# Altium integrated library Linear Technology Power Management PMIC Multifunction.IntLib: 360 symbols (part 37 of 42)
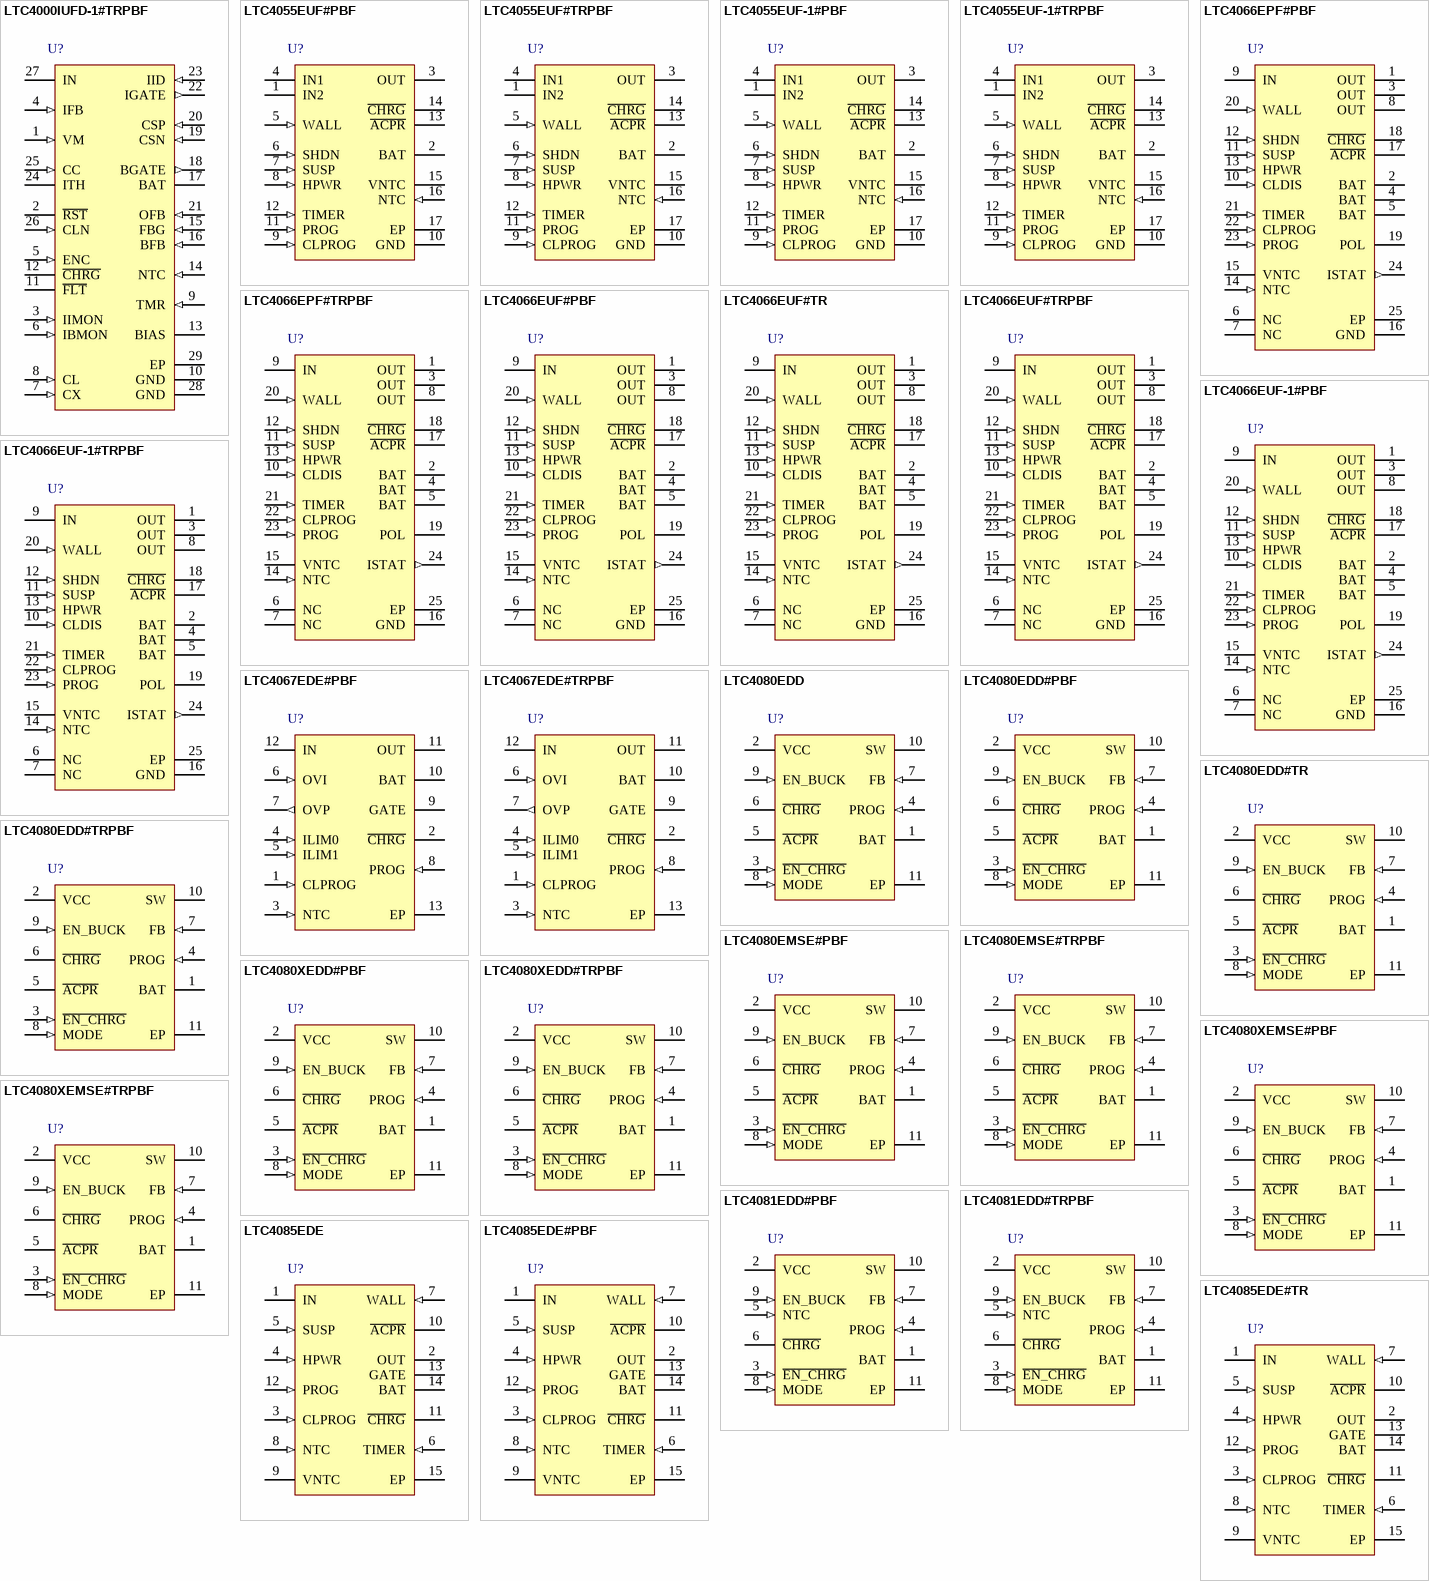
[diagram p54: symbols LTC4000IUFD-1#TRPBF to LTC4085EDE#TR]

## LTC4080XEMSE#PBF
designator U?
500 mA Standalone Li-Ion Charger with Integrated 300 mA Synchronous Buck, 3.75 to 5.5 V Vin, 10-pin SOP (MSE-10-EDP), 0 to 70 degC, Pb-Free; Manufacturer: Linear Technology; PartNumber: LTC4080XEMSE#PBF; Number of Cells: 1; Vin Max(V): 5.5; Vin Min(V): 3.75; PackageVersion: Rev. C, 08/2009; PackageReference: MSE-10; PackageDescription: 10-Pin Plastic MSOP, Exposed Die Pad, Body 3 x 3 mm, Pitch 0.5 mm; Supplier 1: Digi-Key; Supplier Part Number 1: LTC4080XEMSE#PBF-ND; Number of Outputs: 1; RoHS: TRUE; Mounting Technology: Surface Mount; ComponentLink1Description: Manufacturer URL; ComponentLink1URL: http://www.linear.com/; ComponentLink2Description: Datasheet; ComponentLink2URL: http://cds.linear.com/docs/en/datasheet/4080Xf.pdf; ComponentLink3Description: Package Specification; ComponentLink3URL: http://cds.linear.com/docs/en/datasheet/3481fc.pdf
footprint LT-MSE-10-EDP-2060x1830TP_N (SOP, 10-Leads, Body 3.1x3.1mm, Pitch 0.5mm, Thermal Pad 2.17x1.94mm, IPC Medium Density)
footprint LT-MSE-10-EDP-2060x1830TP_L (SOP, 10-Leads, Body 3.1x3.1mm, Pitch 0.5mm, Thermal Pad 2.17x1.94mm, IPC High Density)
footprint LT-MSE-10-EDP-2060x1830TP_M (SOP, 10-Leads, Body 3.1x3.1mm, Pitch 0.5mm, Thermal Pad 2.17x1.94mm, IPC Low Density)
pins: 1 BAT (power) "Charge Current Output and Buck Regulator Input. Provides charge current to the battery and regulates the final float voltage to 4.2V. An internal precision resistor divider from this pin sets the float voltage and is (See Datasheet)", 2 VCC (power) "Positive Input Supply Voltage. This pin provides power to the battery charger. VCC can range from 3.75V to 5.5V. This pin should be bypassed with at least a 1uF capacitor. When VCC is less than 32mV above the BAT pin (See Datasheet)", 3 ~{EN_CHRG} (in), 4 PROG (in) "Charge Current Program and Charge Current Monitor Pin. Connecting a 1% resistor, RPROG, to ground programs the charge current. When charging in constant-current mode, this pin servos to 1V.", 5 ~{ACPR} (hiz), 6 ~{CHRG} (hiz) "Open-Drain Charge Status Output. The charge status indicator pin has three states: pulldown, high impedance state, and pulse at 2Hz. This output can be used as a logic interface or as an LED driver. When the battery is being (See Datasheet)", 7 FB (in) "Feedback Pin for the Buck Regulator. A resistor divider from the regulator’s output to the FB pin programs the output voltage. Servo value for this pin is 0.8V.", 8 MODE (in), 9 EN_BUCK (in) "Enable Input Pin for the Switching Regulator. Pull this pin high to enable the regulator, pull low to shut down. Do not float this pin.", 10 SW (power) "Switch Pin for the Buck Regulator. Minimize the length of the metal trace connected to this pin. Place the inductor as close to this pin as possible.", 11 EP (power) "Ground. This pin is the back of the Exposed Pad package and must be soldered to the PCB for electrical connection and rated thermal performance."

## LTC4080XEMSE#TRPBF
designator U?
500 mA Standalone Li-Ion Charger with Integrated 300 mA Synchronous Buck, 3.75 to 5.5 V Vin, 10-pin SOP (MSE-10-EDP), 0 to 70 degC, Pb-Free, Tape and Reel; Manufacturer: Linear Technology; PartNumber: LTC4080XEMSE#TRPBF; Number of Cells: 1; Vin Max(V): 5.5; Vin Min(V): 3.75; PackageVersion: Rev. C, 08/2009; PackageReference: MSE-10; PackageDescription: 10-Pin Plastic MSOP, Exposed Die Pad, Body 3 x 3 mm, Pitch 0.5 mm; Supplier 1: Digi-Key; Supplier Part Number 1: LTC4080XEMSE#TRPBF-ND; Number of Outputs: 1; Packing: Tape and Reel; RoHS: TRUE; Mounting Technology: Surface Mount; ComponentLink1Description: Manufacturer URL; ComponentLink1URL: http://www.linear.com/; ComponentLink2Description: Datasheet; ComponentLink2URL: http://cds.linear.com/docs/en/datasheet/4080Xf.pdf; ComponentLink3Description: Package Specification; ComponentLink3URL: http://cds.linear.com/docs/en/datasheet/3481fc.pdf
footprint LT-MSE-10-EDP-2060x1830TP_N (SOP, 10-Leads, Body 3.1x3.1mm, Pitch 0.5mm, Thermal Pad 2.17x1.94mm, IPC Medium Density)
footprint LT-MSE-10-EDP-2060x1830TP_L (SOP, 10-Leads, Body 3.1x3.1mm, Pitch 0.5mm, Thermal Pad 2.17x1.94mm, IPC High Density)
footprint LT-MSE-10-EDP-2060x1830TP_M (SOP, 10-Leads, Body 3.1x3.1mm, Pitch 0.5mm, Thermal Pad 2.17x1.94mm, IPC Low Density)
pins: 1 BAT (power) "Charge Current Output and Buck Regulator Input. Provides charge current to the battery and regulates the final float voltage to 4.2V. An internal precision resistor divider from this pin sets the float voltage and is (See Datasheet)", 2 VCC (power) "Positive Input Supply Voltage. This pin provides power to the battery charger. VCC can range from 3.75V to 5.5V. This pin should be bypassed with at least a 1uF capacitor. When VCC is less than 32mV above the BAT pin (See Datasheet)", 3 ~{EN_CHRG} (in), 4 PROG (in) "Charge Current Program and Charge Current Monitor Pin. Connecting a 1% resistor, RPROG, to ground programs the charge current. When charging in constant-current mode, this pin servos to 1V.", 5 ~{ACPR} (hiz), 6 ~{CHRG} (hiz) "Open-Drain Charge Status Output. The charge status indicator pin has three states: pulldown, high impedance state, and pulse at 2Hz. This output can be used as a logic interface or as an LED driver. When the battery is being (See Datasheet)", 7 FB (in) "Feedback Pin for the Buck Regulator. A resistor divider from the regulator’s output to the FB pin programs the output voltage. Servo value for this pin is 0.8V.", 8 MODE (in), 9 EN_BUCK (in) "Enable Input Pin for the Switching Regulator. Pull this pin high to enable the regulator, pull low to shut down. Do not float this pin.", 10 SW (power) "Switch Pin for the Buck Regulator. Minimize the length of the metal trace connected to this pin. Place the inductor as close to this pin as possible.", 11 EP (power) "Ground. This pin is the back of the Exposed Pad package and must be soldered to the PCB for electrical connection and rated thermal performance."

## LTC4081EDD#PBF
designator U?
500 mA Li-Ion Charger with NTC Input and 300 mA Synchronous Buck, 3.75 to 5.5 V Vin, 10-pin SON (DD-10), 0 to 70 degC, Pb-Free; Manufacturer: Linear Technology; PartNumber: LTC4081EDD#PBF; Number of Cells: 1; Vin Max(V): 5.5; Vin Min(V): 3.75; PackageVersion: Rev. C, 06/2010; PackageReference: DD-10; PackageDescription: 10-Pin Plastic DFN, Body 3 x 3 mm, Pitch 0.5 mm; Supplier 1: Digi-Key; Supplier Part Number 1: LTC4081EDD#PBF-ND; Supplier 2: Farnell; Supplier Part Number 2: 1715248; Supplier 3: Newark; Supplier Part Number 3: 58M0941; Number of Outputs: 1; RoHS: TRUE; Mounting Technology: Surface Mount; Code_JEDEC: MO-229; ComponentLink1Description: Manufacturer URL; ComponentLink1URL: http://www.linear.com/; ComponentLink2Description: Datasheet; ComponentLink2URL: http://cds.linear.com/docs/en/datasheet/4081f.pdf; ComponentLink3Description: Package Specification; ComponentLink3URL: http://cds.linear.com/docs/en/packaging/DFN_10_05-08-1699.pdf
footprint LT-DD-10_V (SON, 10-Leads, Body 3x3mm, Pitch 0.5mm, Thermal Pad 2.38x1.65mm)
pins: 1 BAT (power) "Charge Current Output and Buck Regulator Input. Provides charge current to the battery and regulates the ?nal ?oat voltage to 4.2V. An internal precision resistor divider from this pin sets the ?oat voltage a(See Datasheet)", 2 VCC (power) "Positive Input Supply Voltage. This pin provides power to the battery charger. VCC can range from 3.75V to 5.5V. This pin should be bypassed with at least a 1uF capacitor. When VCC is less than 32mV above the BAT pin (See Datasheet)", 3 ~{EN_CHRG} (in) "Enable Input Pin for the Battery Charger. Pulling this pin above the manual shutdown threshold (VIH) puts the LTC4081 charger in shutdown mode, thus stopping the charge cycle. In battery charger shutdown mode, the LTC4081 (See Datasheet)", 4 PROG (in) "Charge Current Program and Charge Current Monitor Pin. Connecting a 1% resistor, RPROG, to ground programs the charge current. When charging in constant-current mode, this pin servos to 1V. In all modes,  the voltage on this (See Datasheet)", 5 NTC (in) "Input to the NTC (negative temperature coef- ?cient) Thermistor Temperature Monitoring Circuit. For normal operation, connect a thermistor from the NTC pin to ground and a resistor of equal value from the NTC pin to VCC(See Datasheet)", 6 ~{CHRG} (hiz) "Open-Drain Charge Status Output. The charge status indicator pin has three states: pulldown, high impedance state, and pulsing at 2Hz. This output can be used as a logic interface or as an LED driver. When the  battery is (See Datasheet)", 7 FB (in) "Feedback Pin for the Buck Regulator. A resistor divider from the regulator¡¯s output to the FB pin programs  the output voltage. Servo value for this pin is 0.8V.", 8 MODE (in) "Burst Mode Enable Pin. Tie this pin high to force the LTC4081 regulator into Burst Mode operation for all load conditions. Tie this pin low to force constantfrequency mode operation for all load conditions. Do not  ?oa(See Datasheet)", 9 EN_BUCK (in) "Enable Input Pin for the Buck Regulator.  Pull this pin high to enable the regulator, pull low to shut down. Do not ?oat this pin.", 10 SW (power) "Switch Pin for the Buck Regulator. Minimize the length of the metal trace connected to this pin. Place the inductor as close to this pin as possible.", 11 EP (power) "Ground. This pin is the back of the Exposed Pad package and must be soldered to the PCB for electrical  connection and rated thermal performance."

## LTC4081EDD#TRPBF
designator U?
500 mA Li-Ion Charger with NTC Input and 300 mA Synchronous Buck, 3.75 to 5.5 V Vin, 10-pin SON (DD-10), 0 to 70 degC, Pb-Free, Tape and Reel; Manufacturer: Linear Technology; PartNumber: LTC4081EDD#TRPBF; Number of Cells: 1; Vin Max(V): 5.5; Vin Min(V): 3.75; PackageVersion: Rev. C, 06/2010; PackageReference: DD-10; PackageDescription: 10-Pin Plastic DFN, Body 3 x 3 mm, Pitch 0.5 mm; Supplier 1: Digi-Key; Supplier Part Number 1: LTC4081EDD#TRPBF-ND; Number of Outputs: 1; Packing: Tape and Reel; RoHS: TRUE; Mounting Technology: Surface Mount; Code_JEDEC: MO-229; ComponentLink1Description: Manufacturer URL; ComponentLink1URL: http://www.linear.com/; ComponentLink2Description: Datasheet; ComponentLink2URL: http://cds.linear.com/docs/en/datasheet/4081f.pdf; ComponentLink3Description: Package Specification; ComponentLink3URL: http://cds.linear.com/docs/en/packaging/DFN_10_05-08-1699.pdf
footprint LT-DD-10_V (SON, 10-Leads, Body 3x3mm, Pitch 0.5mm, Thermal Pad 2.38x1.65mm)
pins: 1 BAT (power) "Charge Current Output and Buck Regulator Input. Provides charge current to the battery and regulates the ?nal ?oat voltage to 4.2V. An internal precision resistor divider from this pin sets the ?oat voltage a(See Datasheet)", 2 VCC (power) "Positive Input Supply Voltage. This pin provides power to the battery charger. VCC can range from 3.75V to 5.5V. This pin should be bypassed with at least a 1uF capacitor. When VCC is less than 32mV above the BAT pin (See Datasheet)", 3 ~{EN_CHRG} (in) "Enable Input Pin for the Battery Charger. Pulling this pin above the manual shutdown threshold (VIH) puts the LTC4081 charger in shutdown mode, thus stopping the charge cycle. In battery charger shutdown mode, the LTC4081 (See Datasheet)", 4 PROG (in) "Charge Current Program and Charge Current Monitor Pin. Connecting a 1% resistor, RPROG, to ground programs the charge current. When charging in constant-current mode, this pin servos to 1V. In all modes,  the voltage on this (See Datasheet)", 5 NTC (in) "Input to the NTC (negative temperature coef- ?cient) Thermistor Temperature Monitoring Circuit. For normal operation, connect a thermistor from the NTC pin to ground and a resistor of equal value from the NTC pin to VCC(See Datasheet)", 6 ~{CHRG} (hiz) "Open-Drain Charge Status Output. The charge status indicator pin has three states: pulldown, high impedance state, and pulsing at 2Hz. This output can be used as a logic interface or as an LED driver. When the  battery is (See Datasheet)", 7 FB (in) "Feedback Pin for the Buck Regulator. A resistor divider from the regulator¡¯s output to the FB pin programs  the output voltage. Servo value for this pin is 0.8V.", 8 MODE (in) "Burst Mode Enable Pin. Tie this pin high to force the LTC4081 regulator into Burst Mode operation for all load conditions. Tie this pin low to force constantfrequency mode operation for all load conditions. Do not  ?oa(See Datasheet)", 9 EN_BUCK (in) "Enable Input Pin for the Buck Regulator.  Pull this pin high to enable the regulator, pull low to shut down. Do not ?oat this pin.", 10 SW (power) "Switch Pin for the Buck Regulator. Minimize the length of the metal trace connected to this pin. Place the inductor as close to this pin as possible.", 11 EP (power) "Ground. This pin is the back of the Exposed Pad package and must be soldered to the PCB for electrical  connection and rated thermal performance."

## LTC4085EDE
designator U?
USB Power Manager with Ideal Diode Controller and Li-Ion Charger with 4.2 V Float Voltage, 29% Vvntc, Undervoltage Current Limit, 4.35 to 5.5 V Vin, 14-pin SON (DE-14), -40 to 85 degC; Manufacturer: Linear Technology; PartNumber: LTC4085EDE; Number of Cells: 1; Vin Max(V): 5.5; Vin Min(V): 4.35; DatasheetVersion: Rev. D; PackageVersion: Rev. B, 06/2010; PackageReference: DE-14; PackageDescription: 14-Pin Plastic DFN, Body 4 x 3 mm, Pitch 0.5 mm; Supplier 1: Newark; Supplier Part Number 1: 56M8709; Number of Outputs: 1; RoHS: FALSE; Mounting Technology: Surface Mount; Code_JEDEC: MO-229; ComponentLink1Description: Manufacturer URL; ComponentLink1URL: http://www.linear.com/; ComponentLink2Description: Datasheet; ComponentLink2URL: http://cds.linear.com/docs/en/datasheet/4085fd.pdf; ComponentLink3Description: Package Specification; ComponentLink3URL: http://www.linear.com/docs/en/packaging/DFN_14_05-08-1708.pdf
footprint LT-DE-14_V (SON, 14-Leads, Body 4x3mm, Pitch 0.5mm, Thermal Pad 3.3x1.7mm)
pins: 1 IN (power) "Input Supply. Connect to USB supply, VBUS.  Input current to this pin is limited to either 20% or 100%  of the current programmed by the CLPROG pin as determined by the state of the HPWR pin. Charge current (to  BAT pin) (See Datasheet)", 2 OUT (power) "Voltage Output. This pin is used to provide  controlled power to a USB device from either USB VBUS (IN) or the battery (BAT) when the USB is not present. This  pin can also be used as an input for battery charging when  the (See Datasheet)", 3 CLPROG (in) "Current Limit Program and Input Current Monitor. Connecting a resistor, RCLPROG, to ground  programs the input to output current limit.", 4 HPWR (in) "High Power Select. This logic input is used  to control the input current limit. A voltage greater than  1.2V on the pin will set the input current limit to 100% of  the current programmed by the CLPROG pin. A voltage  less (See Datasheet)", 5 SUSP (in) "Suspend Mode Input. Pulling this pin above  1.2V will disable the power path from IN to OUT. The supply current from IN will be reduced to comply with the  USB speci? cation for suspend mode. Both the ability to  charg(See Datasheet)", 6 TIMER (in) "Timer Capacitor. Placing a capacitor, CTIMER,  to GND sets the timer period.", 7 WALL (in) "Wall Adapter Present Input. Pulling this  pin above 4.25V will disconnect the power path from IN  to OUT. The A\C\P\R\ pin will also be pulled low to indicate  that a wall adapter has been detected.", 8 NTC (in) "Input to the NTC Thermistor Monitoring Circuits. Under normal operation, tie a thermistor from the NTC pin to ground and a resistor of equal value from NTC to VNTC. When the voltage on this pin is above 0.74 • VVNTC (Cold(See Datasheet)", 9 VNTC "Output Bias Voltage for NTC. A resistor  from this pin to the NTC pin will bias the NTC thermistor.", 10 ~{ACPR} (hiz) "Wall Adapter Present Output. Active low  open drain output pin. A low on this pin indicates that the  wall adapter input comparator has had its input pulled  above the input threshold. This feature is disabled if no  power (See Datasheet)", 11 ~{CHRG} (hiz) "Open-Drain Charge Status Output. When  the battery is being charged, the C\H\R\G\ pin is pulled low by  an internal N-channel MOSFET. When the timer runs out or  the charge current drops below 10% of the programmed  charge (See Datasheet)", 12 PROG (in) "Charge Current Program. Connecting a  resistor, RPROG, to ground programs the battery charge  current.", 13 GATE (hiz) "External Ideal Diode Gate Pin. This pin  can be used to drive the gate of an optional external  PFET connected between BAT and OUT. By doing so, the  impedance of the ideal diode between BAT and OUT can be  reduced. When not (See Datasheet)", 14 BAT (power) "Connect to a single cell Li-Ion battery. This  pin is used as an output when charging the battery and  as an input when supplying power to OUT. When the OUT  pin potential drops below the BAT pin potential, an ideal  diode (See Datasheet)", 15 EP (power) "Ground. The exposed package pad is ground and must be soldered to the PC board for proper functionality and for maximum heat transfer."

## LTC4085EDE#PBF
designator U?
USB Power Manager with Ideal Diode Controller and Li-Ion Charger with 4.2 V Float Voltage, 29% Vvntc, Undervoltage Current Limit, 4.35 to 5.5 V Vin, 14-pin SON (DE-14), -40 to 85 degC, Pb-Free; Manufacturer: Linear Technology; PartNumber: LTC4085EDE#PBF; Number of Cells: 1; Vin Max(V): 5.5; Vin Min(V): 4.35; DatasheetVersion: Rev. D; PackageVersion: Rev. B, 06/2010; PackageReference: DE-14; PackageDescription: 14-Pin Plastic DFN, Body 4 x 3 mm, Pitch 0.5 mm; Supplier 1: Digi-Key; Supplier Part Number 1: LTC4085EDE#PBF-ND; Supplier 2: Farnell; Supplier Part Number 2: 2295378; Supplier 3: Newark; Supplier Part Number 3: 75M4541; Number of Outputs: 1; RoHS: TRUE; Mounting Technology: Surface Mount; Code_JEDEC: MO-229; ComponentLink1Description: Manufacturer URL; ComponentLink1URL: http://www.linear.com/; ComponentLink2Description: Datasheet; ComponentLink2URL: http://cds.linear.com/docs/en/datasheet/4085fd.pdf; ComponentLink3Description: Package Specification; ComponentLink3URL: http://www.linear.com/docs/en/packaging/DFN_14_05-08-1708.pdf
footprint LT-DE-14_V (SON, 14-Leads, Body 4x3mm, Pitch 0.5mm, Thermal Pad 3.3x1.7mm)
pins: 1 IN (power) "Input Supply. Connect to USB supply, VBUS.  Input current to this pin is limited to either 20% or 100%  of the current programmed by the CLPROG pin as determined by the state of the HPWR pin. Charge current (to  BAT pin) (See Datasheet)", 2 OUT (power) "Voltage Output. This pin is used to provide  controlled power to a USB device from either USB VBUS (IN) or the battery (BAT) when the USB is not present. This  pin can also be used as an input for battery charging when  the (See Datasheet)", 3 CLPROG (in) "Current Limit Program and Input Current Monitor. Connecting a resistor, RCLPROG, to ground  programs the input to output current limit.", 4 HPWR (in) "High Power Select. This logic input is used  to control the input current limit. A voltage greater than  1.2V on the pin will set the input current limit to 100% of  the current programmed by the CLPROG pin. A voltage  less (See Datasheet)", 5 SUSP (in) "Suspend Mode Input. Pulling this pin above  1.2V will disable the power path from IN to OUT. The supply current from IN will be reduced to comply with the  USB speci? cation for suspend mode. Both the ability to  charg(See Datasheet)", 6 TIMER (in) "Timer Capacitor. Placing a capacitor, CTIMER,  to GND sets the timer period.", 7 WALL (in) "Wall Adapter Present Input. Pulling this  pin above 4.25V will disconnect the power path from IN  to OUT. The A\C\P\R\ pin will also be pulled low to indicate  that a wall adapter has been detected.", 8 NTC (in) "Input to the NTC Thermistor Monitoring Circuits. Under normal operation, tie a thermistor from the NTC pin to ground and a resistor of equal value from NTC to VNTC. When the voltage on this pin is above 0.74 • VVNTC (Cold(See Datasheet)", 9 VNTC "Output Bias Voltage for NTC. A resistor  from this pin to the NTC pin will bias the NTC thermistor.", 10 ~{ACPR} (hiz) "Wall Adapter Present Output. Active low  open drain output pin. A low on this pin indicates that the  wall adapter input comparator has had its input pulled  above the input threshold. This feature is disabled if no  power (See Datasheet)", 11 ~{CHRG} (hiz) "Open-Drain Charge Status Output. When  the battery is being charged, the C\H\R\G\ pin is pulled low by  an internal N-channel MOSFET. When the timer runs out or  the charge current drops below 10% of the programmed  charge (See Datasheet)", 12 PROG (in) "Charge Current Program. Connecting a  resistor, RPROG, to ground programs the battery charge  current.", 13 GATE (hiz) "External Ideal Diode Gate Pin. This pin  can be used to drive the gate of an optional external  PFET connected between BAT and OUT. By doing so, the  impedance of the ideal diode between BAT and OUT can be  reduced. When not (See Datasheet)", 14 BAT (power) "Connect to a single cell Li-Ion battery. This  pin is used as an output when charging the battery and  as an input when supplying power to OUT. When the OUT  pin potential drops below the BAT pin potential, an ideal  diode (See Datasheet)", 15 EP (power) "Ground. The exposed package pad is ground and must be soldered to the PC board for proper functionality and for maximum heat transfer."

## LTC4085EDE#TR
designator U?
USB Power Manager with Ideal Diode Controller and Li-Ion Charger with 4.2 V Float Voltage, 29% Vvntc, Undervoltage Current Limit, 4.35 to 5.5 V Vin, 14-pin SON (DE-14), -40 to 85 degC, Tape and Reel; Manufacturer: Linear Technology; PartNumber: LTC4085EDE#TR; Number of Cells: 1; Vin Max(V): 5.5; Vin Min(V): 4.35; DatasheetVersion: Rev. D; PackageVersion: Rev. B, 06/2010; PackageReference: DE-14; PackageDescription: 14-Pin Plastic DFN, Body 4 x 3 mm, Pitch 0.5 mm; Number of Outputs: 1; Packing: Tape and Reel; RoHS: FALSE; Mounting Technology: Surface Mount; Code_JEDEC: MO-229; ComponentLink1Description: Manufacturer URL; ComponentLink1URL: http://www.linear.com/; ComponentLink2Description: Datasheet; ComponentLink2URL: http://cds.linear.com/docs/en/datasheet/4085fd.pdf; ComponentLink3Description: Package Specification; ComponentLink3URL: http://www.linear.com/docs/en/packaging/DFN_14_05-08-1708.pdf
footprint LT-DE-14_V (SON, 14-Leads, Body 4x3mm, Pitch 0.5mm, Thermal Pad 3.3x1.7mm)
pins: 1 IN (power) "Input Supply. Connect to USB supply, VBUS.  Input current to this pin is limited to either 20% or 100%  of the current programmed by the CLPROG pin as determined by the state of the HPWR pin. Charge current (to  BAT pin) (See Datasheet)", 2 OUT (power) "Voltage Output. This pin is used to provide  controlled power to a USB device from either USB VBUS (IN) or the battery (BAT) when the USB is not present. This  pin can also be used as an input for battery charging when  the (See Datasheet)", 3 CLPROG (in) "Current Limit Program and Input Current Monitor. Connecting a resistor, RCLPROG, to ground  programs the input to output current limit.", 4 HPWR (in) "High Power Select. This logic input is used  to control the input current limit. A voltage greater than  1.2V on the pin will set the input current limit to 100% of  the current programmed by the CLPROG pin. A voltage  less (See Datasheet)", 5 SUSP (in) "Suspend Mode Input. Pulling this pin above  1.2V will disable the power path from IN to OUT. The supply current from IN will be reduced to comply with the  USB speci? cation for suspend mode. Both the ability to  charg(See Datasheet)", 6 TIMER (in) "Timer Capacitor. Placing a capacitor, CTIMER,  to GND sets the timer period.", 7 WALL (in) "Wall Adapter Present Input. Pulling this  pin above 4.25V will disconnect the power path from IN  to OUT. The A\C\P\R\ pin will also be pulled low to indicate  that a wall adapter has been detected.", 8 NTC (in) "Input to the NTC Thermistor Monitoring Circuits. Under normal operation, tie a thermistor from the NTC pin to ground and a resistor of equal value from NTC to VNTC. When the voltage on this pin is above 0.74 • VVNTC (Cold(See Datasheet)", 9 VNTC "Output Bias Voltage for NTC. A resistor  from this pin to the NTC pin will bias the NTC thermistor.", 10 ~{ACPR} (hiz) "Wall Adapter Present Output. Active low  open drain output pin. A low on this pin indicates that the  wall adapter input comparator has had its input pulled  above the input threshold. This feature is disabled if no  power (See Datasheet)", 11 ~{CHRG} (hiz) "Open-Drain Charge Status Output. When  the battery is being charged, the C\H\R\G\ pin is pulled low by  an internal N-channel MOSFET. When the timer runs out or  the charge current drops below 10% of the programmed  charge (See Datasheet)", 12 PROG (in) "Charge Current Program. Connecting a  resistor, RPROG, to ground programs the battery charge  current.", 13 GATE (hiz) "External Ideal Diode Gate Pin. This pin  can be used to drive the gate of an optional external  PFET connected between BAT and OUT. By doing so, the  impedance of the ideal diode between BAT and OUT can be  reduced. When not (See Datasheet)", 14 BAT (power) "Connect to a single cell Li-Ion battery. This  pin is used as an output when charging the battery and  as an input when supplying power to OUT. When the OUT  pin potential drops below the BAT pin potential, an ideal  diode (See Datasheet)", 15 EP (power) "Ground. The exposed package pad is ground and must be soldered to the PC board for proper functionality and for maximum heat transfer."

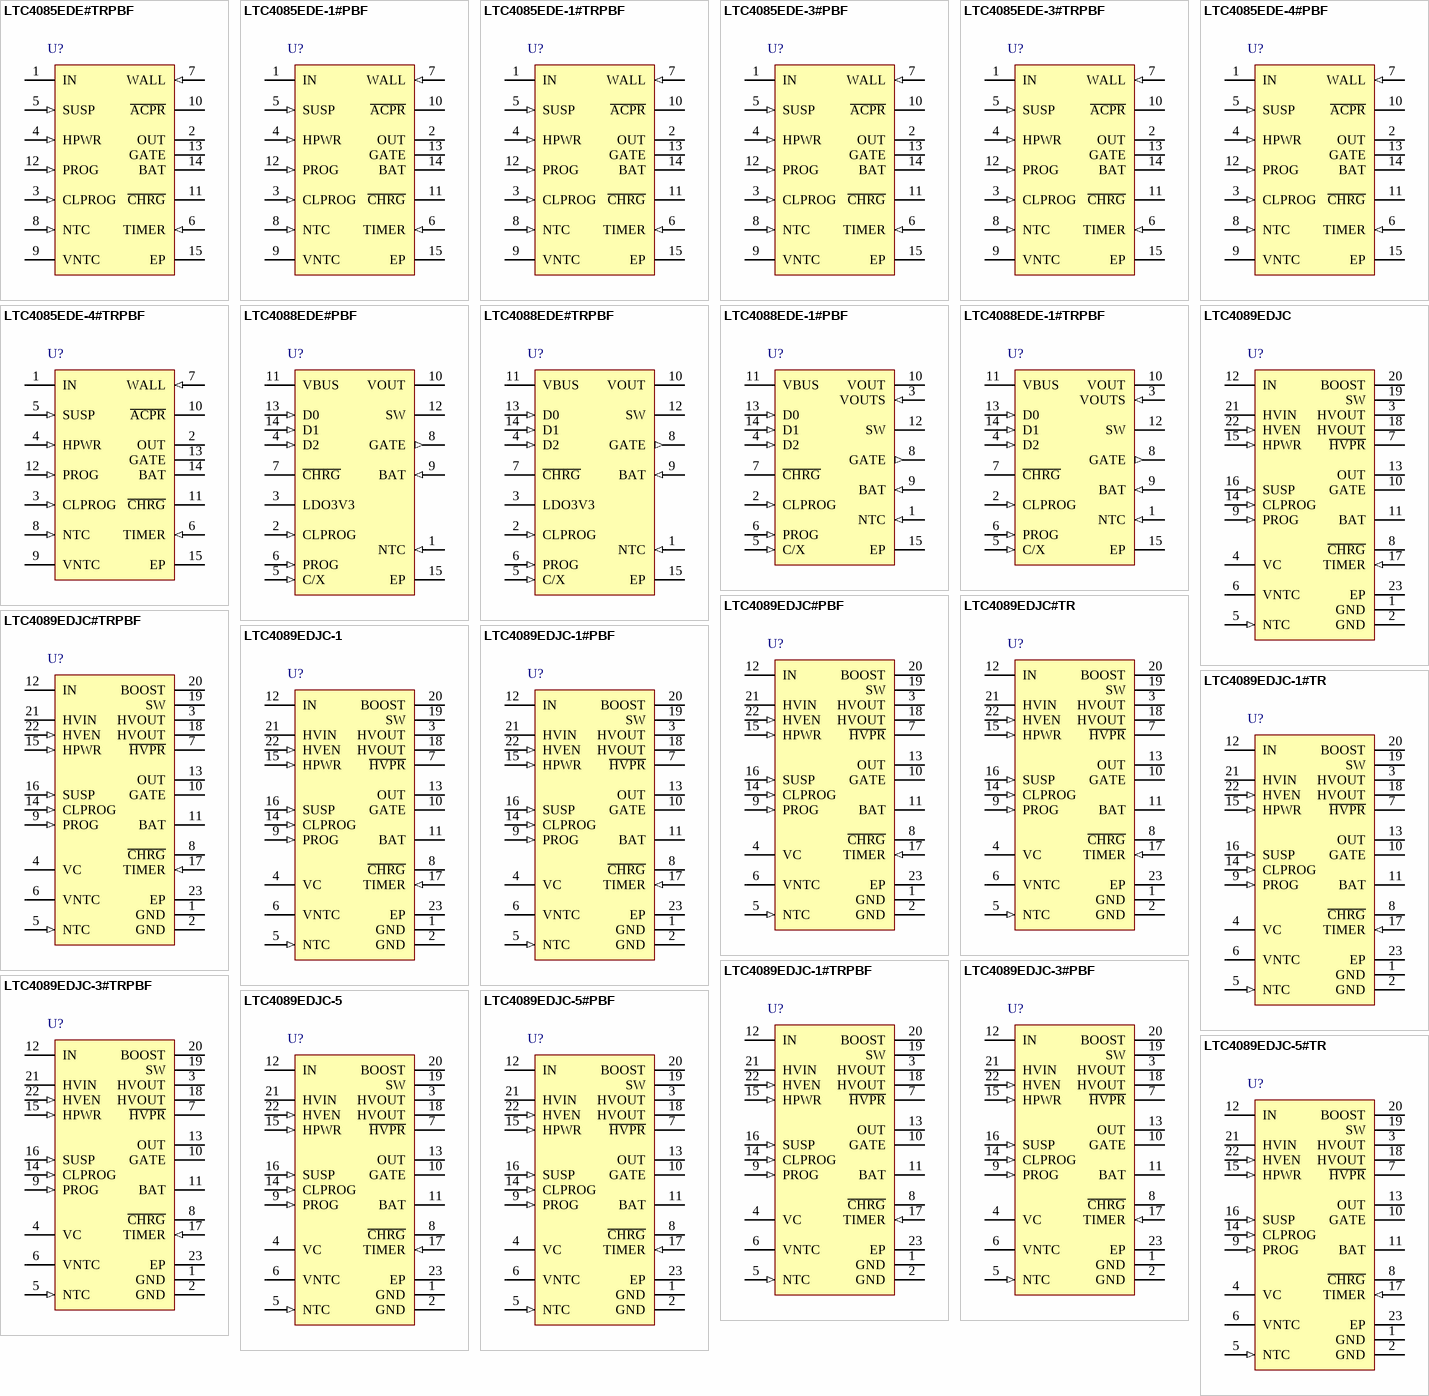
[diagram p16: symbols LTC4085EDE#TRPBF to LTC4089EDJC-5#TR]

## LTC4085EDE#TRPBF
designator U?
USB Power Manager with Ideal Diode Controller and Li-Ion Charger with 4.2 V Float Voltage, 29% Vvntc, Undervoltage Current Limit, 4.35 to 5.5 V Vin, 14-pin SON (DE-14), -40 to 85 degC, Pb-Free, Tape and Reel; Manufacturer: Linear Technology; PartNumber: LTC4085EDE#TRPBF; Number of Cells: 1; Vin Max(V): 5.5; Vin Min(V): 4.35; DatasheetVersion: Rev. D; PackageVersion: Rev. B, 06/2010; PackageReference: DE-14; PackageDescription: 14-Pin Plastic DFN, Body 4 x 3 mm, Pitch 0.5 mm; Supplier 1: Digi-Key; Supplier Part Number 1: LTC4085EDE#TRPBF-ND; Supplier 2: Newark; Supplier Part Number 2: 75M4542; Number of Outputs: 1; Packing: Tape and Reel; RoHS: TRUE; Mounting Technology: Surface Mount; Code_JEDEC: MO-229; ComponentLink1Description: Manufacturer URL; ComponentLink1URL: http://www.linear.com/; ComponentLink2Description: Datasheet; ComponentLink2URL: http://cds.linear.com/docs/en/datasheet/4085fd.pdf; ComponentLink3Description: Package Specification; ComponentLink3URL: http://www.linear.com/docs/en/packaging/DFN_14_05-08-1708.pdf
footprint LT-DE-14_V (SON, 14-Leads, Body 4x3mm, Pitch 0.5mm, Thermal Pad 3.3x1.7mm)
pins: 1 IN (power) "Input Supply. Connect to USB supply, VBUS.  Input current to this pin is limited to either 20% or 100%  of the current programmed by the CLPROG pin as determined by the state of the HPWR pin. Charge current (to  BAT pin) (See Datasheet)", 2 OUT (power) "Voltage Output. This pin is used to provide  controlled power to a USB device from either USB VBUS (IN) or the battery (BAT) when the USB is not present. This  pin can also be used as an input for battery charging when  the (See Datasheet)", 3 CLPROG (in) "Current Limit Program and Input Current Monitor. Connecting a resistor, RCLPROG, to ground  programs the input to output current limit.", 4 HPWR (in) "High Power Select. This logic input is used  to control the input current limit. A voltage greater than  1.2V on the pin will set the input current limit to 100% of  the current programmed by the CLPROG pin. A voltage  less (See Datasheet)", 5 SUSP (in) "Suspend Mode Input. Pulling this pin above  1.2V will disable the power path from IN to OUT. The supply current from IN will be reduced to comply with the  USB speci? cation for suspend mode. Both the ability to  charg(See Datasheet)", 6 TIMER (in) "Timer Capacitor. Placing a capacitor, CTIMER,  to GND sets the timer period.", 7 WALL (in) "Wall Adapter Present Input. Pulling this  pin above 4.25V will disconnect the power path from IN  to OUT. The A\C\P\R\ pin will also be pulled low to indicate  that a wall adapter has been detected.", 8 NTC (in) "Input to the NTC Thermistor Monitoring Circuits. Under normal operation, tie a thermistor from the NTC pin to ground and a resistor of equal value from NTC to VNTC. When the voltage on this pin is above 0.74 • VVNTC (Cold(See Datasheet)", 9 VNTC "Output Bias Voltage for NTC. A resistor  from this pin to the NTC pin will bias the NTC thermistor.", 10 ~{ACPR} (hiz) "Wall Adapter Present Output. Active low  open drain output pin. A low on this pin indicates that the  wall adapter input comparator has had its input pulled  above the input threshold. This feature is disabled if no  power (See Datasheet)", 11 ~{CHRG} (hiz) "Open-Drain Charge Status Output. When  the battery is being charged, the C\H\R\G\ pin is pulled low by  an internal N-channel MOSFET. When the timer runs out or  the charge current drops below 10% of the programmed  charge (See Datasheet)", 12 PROG (in) "Charge Current Program. Connecting a  resistor, RPROG, to ground programs the battery charge  current.", 13 GATE (hiz) "External Ideal Diode Gate Pin. This pin  can be used to drive the gate of an optional external  PFET connected between BAT and OUT. By doing so, the  impedance of the ideal diode between BAT and OUT can be  reduced. When not (See Datasheet)", 14 BAT (power) "Connect to a single cell Li-Ion battery. This  pin is used as an output when charging the battery and  as an input when supplying power to OUT. When the OUT  pin potential drops below the BAT pin potential, an ideal  diode (See Datasheet)", 15 EP (power) "Ground. The exposed package pad is ground and must be soldered to the PC board for proper functionality and for maximum heat transfer."

## LTC4085EDE-1#PBF
designator U?
USB Power Manager with Ideal Diode Controller and 4.1 V Li-Ion Charger, 32.6% Vvntc, Undervoltage Current Limit, 4.35 to 5.5 V Vin, 14-pin SON (DE-14), -40 to 85 degC, Pb-Free; Manufacturer: Linear Technology; PartNumber: LTC4085EDE-1#PBF; Number of Cells: 1; Vin Max(V): 5.5; Vin Min(V): 4.35; DatasheetVersion: Rev. A; PackageVersion: Rev. B, 06/2010; PackageReference: DE-14; PackageDescription: 14-Pin Plastic DFN, Body 4 x 3 mm, Pitch 0.5 mm; Supplier 1: Digi-Key; Supplier Part Number 1: LTC4085EDE-1#PBF-ND; Number of Outputs: 1; RoHS: TRUE; Mounting Technology: Surface Mount; Code_JEDEC: MO-229; ComponentLink1Description: Manufacturer URL; ComponentLink1URL: http://www.linear.com/; ComponentLink2Description: Datasheet; ComponentLink2URL: http://cds.linear.com/docs/en/datasheet/4085_1fa.pdf; ComponentLink3Description: Package Specification; ComponentLink3URL: http://www.linear.com/docs/en/packaging/DFN_14_05-08-1708.pdf
footprint LT-DE-14_V (SON, 14-Leads, Body 4x3mm, Pitch 0.5mm, Thermal Pad 3.3x1.7mm)
pins: 1 IN (power) "Input Supply. Connect to USB supply, VBUS. Input current to this pin is limited to either 20% or 100%  of the current programmed by the CLPROG pin as determined by the state of the HPWR pin. Charge current (to  BAT pin) (See Datasheet)", 2 OUT (power) "Voltage Output. This pin is used to provide  controlled power to a USB device from either USB VBUS (IN) or the battery (BAT) when the USB is not present. This  pin can also be used as an input for battery charging when  the (See Datasheet)", 3 CLPROG (in) "Current Limit Program and Input Current Monitor. Connecting a resistor, RCLPROG, to ground  programs the input to output current limit.", 4 HPWR (in) "High Power Select. This logic input is used  to control the input current limit. A voltage greater than  1.2V on the pin will set the input current limit to 100% of  the current programmed by the CLPROG pin. A voltage  less (See Datasheet)", 5 SUSP (in) "Suspend Mode Input. Pulling this pin above  1.2V will disable the power path from IN to OUT. The supply current from IN will be reduced to comply with the  USB specfication for suspend mode. Both the ability to  charge the (See Datasheet)", 6 TIMER (in) "Timer Capacitor. Placing a capacitor, CTIMER,  to GND sets the timer period.", 7 WALL (in) "Wall Adapter Present Input. Pulling this pin above 4.25V will disconnect the power path from IN to OUT. The A\C\P\R\ pin will also be pulled low to indicate that a wall adapter has been detected.", 8 NTC (in) "Input to the NTC Thermistor Monitoring Circuits. The NTC pin connects to a negative temperature coeffcient thermistor which is typically co-packaged with the battery pack to determine if the battery is too hot or too cold to (See Datasheet)", 9 VNTC "Output Bias Voltage for NTC. A resistor from this pin to the NTC pin will bias the NTC thermistor.", 10 ~{ACPR} (hiz) "Wall Adapter Present Output. Active low  open drain output pin. A low on this pin indicates that the wall adapter input comparator has had its input pulled above the input threshold. This feature is disabled if no power is (See Datasheet)", 11 ~{CHRG} (hiz) "Open-Drain Charge Status Output. When the battery is being charged, the C\H\R\G\ pin is pulled low by an internal N-channel MOSFET. When the timer runs out or the charge current drops below 10% of the programmed charge (See Datasheet)", 12 PROG (in) "Charge Current Program. Connecting a resistor, RPROG, to ground programs the battery charge  current.", 13 GATE (hiz) "External Ideal Diode Gate Pin. This pin can be used to drive the gate of an optional external  PFET connected between BAT and OUT. By doing so, the impedance of the ideal diode between BAT and OUT can be reduced. When not in (See Datasheet)", 14 BAT (power) "Connect to a single cell Li-Ion battery. This  pin is used as an output when charging the battery and as an input when supplying power to OUT. When the OUT pin potential drops below the BAT pin potential, an ideal diode (See Datasheet)", 15 EP (power) "Ground. The exposed package pad is electrical ground and must be soldered to the PC board for proper functionality and rated thermal performance."

## LTC4085EDE-1#TRPBF
designator U?
USB Power Manager with Ideal Diode Controller and 4.1 V Li-Ion Charger, 32.6% Vvntc, Undervoltage Current Limit, 4.35 to 5.5 V Vin, 14-pin SON (DE-14), -40 to 85 degC, Pb-Free, Tape and Reel; Manufacturer: Linear Technology; PartNumber: LTC4085EDE-1#TRPBF; Number of Cells: 1; Vin Max(V): 5.5; Vin Min(V): 4.35; DatasheetVersion: Rev. A; PackageVersion: Rev. B, 06/2010; PackageReference: DE-14; PackageDescription: 14-Pin Plastic DFN, Body 4 x 3 mm, Pitch 0.5 mm; Supplier 1: Digi-Key; Supplier Part Number 1: LTC4085EDE-1#TRPBF-ND; Number of Outputs: 1; Packing: Tape and Reel; RoHS: TRUE; Mounting Technology: Surface Mount; Code_JEDEC: MO-229; ComponentLink1Description: Manufacturer URL; ComponentLink1URL: http://www.linear.com/; ComponentLink2Description: Datasheet; ComponentLink2URL: http://cds.linear.com/docs/en/datasheet/4085_1fa.pdf; ComponentLink3Description: Package Specification; ComponentLink3URL: http://www.linear.com/docs/en/packaging/DFN_14_05-08-1708.pdf
footprint LT-DE-14_V (SON, 14-Leads, Body 4x3mm, Pitch 0.5mm, Thermal Pad 3.3x1.7mm)
pins: 1 IN (power) "Input Supply. Connect to USB supply, VBUS. Input current to this pin is limited to either 20% or 100%  of the current programmed by the CLPROG pin as determined by the state of the HPWR pin. Charge current (to  BAT pin) (See Datasheet)", 2 OUT (power) "Voltage Output. This pin is used to provide  controlled power to a USB device from either USB VBUS (IN) or the battery (BAT) when the USB is not present. This  pin can also be used as an input for battery charging when  the (See Datasheet)", 3 CLPROG (in) "Current Limit Program and Input Current Monitor. Connecting a resistor, RCLPROG, to ground  programs the input to output current limit.", 4 HPWR (in) "High Power Select. This logic input is used  to control the input current limit. A voltage greater than  1.2V on the pin will set the input current limit to 100% of  the current programmed by the CLPROG pin. A voltage  less (See Datasheet)", 5 SUSP (in) "Suspend Mode Input. Pulling this pin above  1.2V will disable the power path from IN to OUT. The supply current from IN will be reduced to comply with the  USB specfication for suspend mode. Both the ability to  charge the (See Datasheet)", 6 TIMER (in) "Timer Capacitor. Placing a capacitor, CTIMER,  to GND sets the timer period.", 7 WALL (in) "Wall Adapter Present Input. Pulling this pin above 4.25V will disconnect the power path from IN to OUT. The A\C\P\R\ pin will also be pulled low to indicate that a wall adapter has been detected.", 8 NTC (in) "Input to the NTC Thermistor Monitoring Circuits. The NTC pin connects to a negative temperature coeffcient thermistor which is typically co-packaged with the battery pack to determine if the battery is too hot or too cold to (See Datasheet)", 9 VNTC "Output Bias Voltage for NTC. A resistor from this pin to the NTC pin will bias the NTC thermistor.", 10 ~{ACPR} (hiz) "Wall Adapter Present Output. Active low  open drain output pin. A low on this pin indicates that the wall adapter input comparator has had its input pulled above the input threshold. This feature is disabled if no power is (See Datasheet)", 11 ~{CHRG} (hiz) "Open-Drain Charge Status Output. When the battery is being charged, the C\H\R\G\ pin is pulled low by an internal N-channel MOSFET. When the timer runs out or the charge current drops below 10% of the programmed charge (See Datasheet)", 12 PROG (in) "Charge Current Program. Connecting a resistor, RPROG, to ground programs the battery charge  current.", 13 GATE (hiz) "External Ideal Diode Gate Pin. This pin can be used to drive the gate of an optional external  PFET connected between BAT and OUT. By doing so, the impedance of the ideal diode between BAT and OUT can be reduced. When not in (See Datasheet)", 14 BAT (power) "Connect to a single cell Li-Ion battery. This  pin is used as an output when charging the battery and as an input when supplying power to OUT. When the OUT pin potential drops below the BAT pin potential, an ideal diode (See Datasheet)", 15 EP (power) "Ground. The exposed package pad is electrical ground and must be soldered to the PC board for proper functionality and rated thermal performance."

## LTC4085EDE-3#PBF
designator U?
USB Power Manager with Ideal Diode Controller and 3.95 V Li-Ion Charger, 32.6% Vvntc, No Undervoltage Current Limit, 4.35 to 5.5 V Vin, 14-pin SON (DE-14), -40 to 85 degC, Pb-Free; Manufacturer: Linear Technology; PartNumber: LTC4085EDE-3#PBF; Number of Cells: 1; Vin Max(V): 5.5; Vin Min(V): 4.35; DatasheetVersion: Rev. B; PackageVersion: Rev. B, 06/2010; PackageReference: DE-14; PackageDescription: 14-Pin Plastic DFN, Body 4 x 3 mm, Pitch 0.5 mm; Supplier 1: Digi-Key; Supplier Part Number 1: LTC4085EDE-3#PBF-ND; Number of Outputs: 1; RoHS: TRUE; Mounting Technology: Surface Mount; Code_JEDEC: MO-229; ComponentLink1Description: Manufacturer URL; ComponentLink1URL: http://www.linear.com/; ComponentLink2Description: Datasheet; ComponentLink2URL: http://cds.linear.com/docs/en/datasheet/408534fb.pdf; ComponentLink3Description: Package Specification; ComponentLink3URL: http://www.linear.com/docs/en/packaging/DFN_14_05-08-1708.pdf
footprint LT-DE-14_V (SON, 14-Leads, Body 4x3mm, Pitch 0.5mm, Thermal Pad 3.3x1.7mm)
pins: 1 IN (power) "Input Supply. Connect to USB supply, VBUS. Input current to this pin is limited to either 20% or 100%  of the current programmed by the CLPROG pin as determined by the state of the HPWR pin. Charge current (to  BAT pin) (See Datasheet)", 2 OUT (power) "Voltage Output. This pin is used to provide  controlled power to a USB device from either USB VBUS (IN) or the battery (BAT) when the USB is not present. This  pin can also be used as an input for battery charging when  the (See Datasheet)", 3 CLPROG (in) "Current Limit Program and Input Current Monitor. Connecting a resistor, RCLPROG, to ground  programs the input to output current limit.", 4 HPWR (in) "High Power Select. This logic input is used  to control the input current limit. A voltage greater than  1.2V on the pin will set the input current limit to 100% of  the current programmed by the CLPROG pin. A voltage  less (See Datasheet)", 5 SUSP (in) "Suspend Mode Input. Pulling this pin above  1.2V will disable the power path from IN to OUT. The supply current from IN will be reduced to comply with the  USB specfication for suspend mode. Both the ability to  charge the (See Datasheet)", 6 TIMER (in) "Timer Capacitor. Placing a capacitor, CTIMER,  to GND sets the timer period.", 7 WALL (in) "Wall Adapter Present Input. Pulling this pin above 4.25V will disconnect the power path from IN to OUT. The A\C\P\R\ pin will also be pulled low to indicate that a wall adapter has been detected.", 8 NTC (in) "Input to the NTC Thermistor Monitoring Circuits. The NTC pin connects to a negative temperature coeffcient thermistor which is typically co-packaged with the battery pack to determine if the battery is too hot or too cold to (See Datasheet)", 9 VNTC "Output Bias Voltage for NTC. A resistor from this pin to the NTC pin will bias the NTC thermistor.", 10 ~{ACPR} (hiz) "Wall Adapter Present Output. Active low  open drain output pin. A low on this pin indicates that the wall adapter input comparator has had its input pulled above the input threshold. This feature is disabled if no power is (See Datasheet)", 11 ~{CHRG} (hiz) "Open-Drain Charge Status Output. When the battery is being charged, the C\H\R\G\ pin is pulled low by an internal N-channel MOSFET. When the timer runs out or the charge current drops below 10% of the programmed charge (See Datasheet)", 12 PROG (in) "Charge Current Program. Connecting a resistor, RPROG, to ground programs the battery charge  current.", 13 GATE (hiz) "External Ideal Diode Gate Pin. This pin can be used to drive the gate of an optional external  PFET connected between BAT and OUT. By doing so, the impedance of the ideal diode between BAT and OUT can be reduced. When not in (See Datasheet)", 14 BAT (power) "Connect to a single cell Li-Ion battery. This  pin is used as an output when charging the battery and as an input when supplying power to OUT. When the OUT pin potential drops below the BAT pin potential, an ideal diode (See Datasheet)", 15 EP (power) "Ground. The exposed package pad is electrical ground and must be soldered to the PC board for proper functionality and rated thermal performance."

## LTC4085EDE-3#TRPBF
designator U?
USB Power Manager with Ideal Diode Controller and 3.95 V Li-Ion Charger, 32.6% Vvntc, No Undervoltage Current Limit, 4.35 to 5.5 V Vin, 14-pin SON (DE-14), -40 to 85 degC, Pb-Free, Tape and Reel; Manufacturer: Linear Technology; PartNumber: LTC4085EDE-3#TRPBF; Number of Cells: 1; Vin Max(V): 5.5; Vin Min(V): 4.35; DatasheetVersion: Rev. B; PackageVersion: Rev. B, 06/2010; PackageReference: DE-14; PackageDescription: 14-Pin Plastic DFN, Body 4 x 3 mm, Pitch 0.5 mm; Supplier 1: Digi-Key; Supplier Part Number 1: LTC4085EDE-3#TRPBF-ND; Number of Outputs: 1; Packing: Tape and Reel; RoHS: TRUE; Mounting Technology: Surface Mount; Code_JEDEC: MO-229; ComponentLink1Description: Manufacturer URL; ComponentLink1URL: http://www.linear.com/; ComponentLink2Description: Datasheet; ComponentLink2URL: http://cds.linear.com/docs/en/datasheet/408534fb.pdf; ComponentLink3Description: Package Specification; ComponentLink3URL: http://www.linear.com/docs/en/packaging/DFN_14_05-08-1708.pdf
footprint LT-DE-14_V (SON, 14-Leads, Body 4x3mm, Pitch 0.5mm, Thermal Pad 3.3x1.7mm)
pins: 1 IN (power) "Input Supply. Connect to USB supply, VBUS. Input current to this pin is limited to either 20% or 100%  of the current programmed by the CLPROG pin as determined by the state of the HPWR pin. Charge current (to  BAT pin) (See Datasheet)", 2 OUT (power) "Voltage Output. This pin is used to provide  controlled power to a USB device from either USB VBUS (IN) or the battery (BAT) when the USB is not present. This  pin can also be used as an input for battery charging when  the (See Datasheet)", 3 CLPROG (in) "Current Limit Program and Input Current Monitor. Connecting a resistor, RCLPROG, to ground  programs the input to output current limit.", 4 HPWR (in) "High Power Select. This logic input is used  to control the input current limit. A voltage greater than  1.2V on the pin will set the input current limit to 100% of  the current programmed by the CLPROG pin. A voltage  less (See Datasheet)", 5 SUSP (in) "Suspend Mode Input. Pulling this pin above  1.2V will disable the power path from IN to OUT. The supply current from IN will be reduced to comply with the  USB specfication for suspend mode. Both the ability to  charge the (See Datasheet)", 6 TIMER (in) "Timer Capacitor. Placing a capacitor, CTIMER,  to GND sets the timer period.", 7 WALL (in) "Wall Adapter Present Input. Pulling this pin above 4.25V will disconnect the power path from IN to OUT. The A\C\P\R\ pin will also be pulled low to indicate that a wall adapter has been detected.", 8 NTC (in) "Input to the NTC Thermistor Monitoring Circuits. The NTC pin connects to a negative temperature coeffcient thermistor which is typically co-packaged with the battery pack to determine if the battery is too hot or too cold to (See Datasheet)", 9 VNTC "Output Bias Voltage for NTC. A resistor from this pin to the NTC pin will bias the NTC thermistor.", 10 ~{ACPR} (hiz) "Wall Adapter Present Output. Active low  open drain output pin. A low on this pin indicates that the wall adapter input comparator has had its input pulled above the input threshold. This feature is disabled if no power is (See Datasheet)", 11 ~{CHRG} (hiz) "Open-Drain Charge Status Output. When the battery is being charged, the C\H\R\G\ pin is pulled low by an internal N-channel MOSFET. When the timer runs out or the charge current drops below 10% of the programmed charge (See Datasheet)", 12 PROG (in) "Charge Current Program. Connecting a resistor, RPROG, to ground programs the battery charge  current.", 13 GATE (hiz) "External Ideal Diode Gate Pin. This pin can be used to drive the gate of an optional external  PFET connected between BAT and OUT. By doing so, the impedance of the ideal diode between BAT and OUT can be reduced. When not in (See Datasheet)", 14 BAT (power) "Connect to a single cell Li-Ion battery. This  pin is used as an output when charging the battery and as an input when supplying power to OUT. When the OUT pin potential drops below the BAT pin potential, an ideal diode (See Datasheet)", 15 EP (power) "Ground. The exposed package pad is electrical ground and must be soldered to the PC board for proper functionality and rated thermal performance."